# Altium footprint library PS2501.PcbLib: 1 footprints
Each footprint in its own frame and in the unit in brackets; x right, y up, seen from the top. Pads: shape width x height; smd on the part's side, far side on the other; paste and mask are expansions set on the pad; w line width, h text height; cw(c..) or ccw(c..) is an arc to the next point about the centre after c.
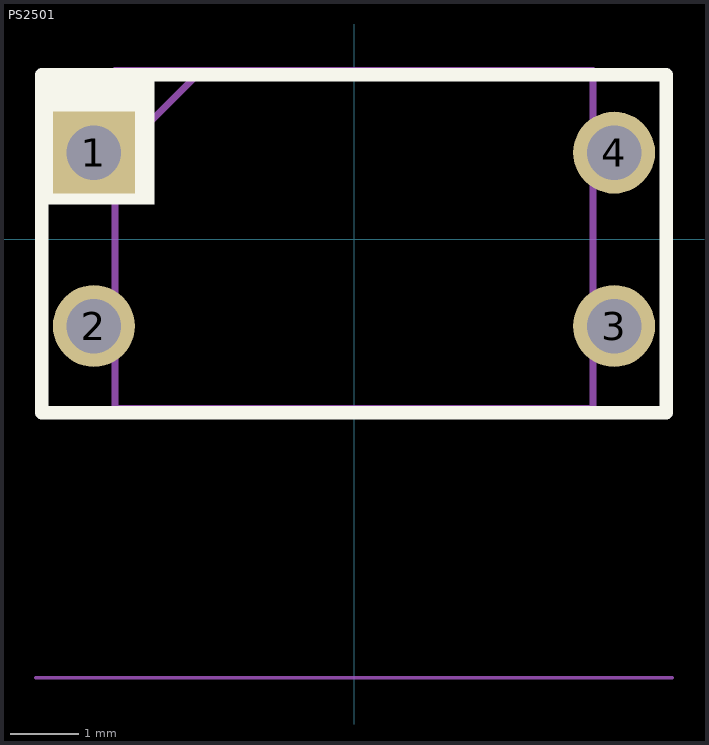
[diagram p0: the footprint, top view; thin cyan lines are the x and y axes]

## PS2501 [mm]
pads (4):
  rect 1.2x1.2 hole 0.8: 1(-3.81,1.27)
  round 1.2 hole 0.8: 2(-3.81,-1.27) 3(3.81,-1.27) 4(3.81,1.27)
Top Overlay:
  rectangle: -4.572,0.508 -2.921,2.413
  lines w0.2: -4.572,-2.54 4.572,-2.54 4.572,2.413 -4.572,2.413 -4.572,-2.54
Mechanical 13:
  lines w0.1: -3.5,1.205 -2.23,2.475 ; -3.5,-2.475 3.5,-2.475 3.5,2.475 -3.5,2.475 -3.5,-2.475
Mechanical 15:
  lines w0.05: -4.66,-6.419 4.66,-6.419
3D body "optoacoplador PS2501.STEP": height 4.5, standoff -2.71, extent -3.943,-2.55 3.937,2.55